# EAGLE library part TSW-124-02-S-Q (library con-samtec)
THROUGH-HOLE .025" SQ POST HEADER Source: Samtec TSW.pdf
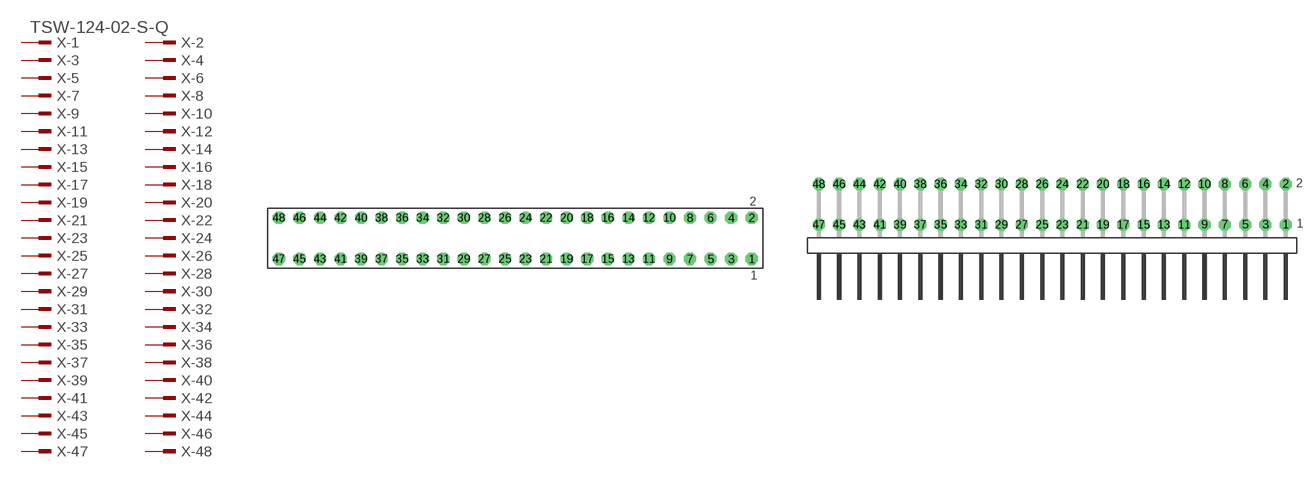
[diagram p266: symbol with the pads of TSW-124-02-S-Q; footprints TSW-124-02-S-Q, TSW-124-02-S-Q-RA]

Designator prefix X; gates -1=MPINV -2=MPIN -3=MPIN -4=MPIN -5=MPIN -6=MPIN -7=MPIN -8=MPIN -9=MPIN -10=MPIN -11=MPIN -12=MPIN -13=MPIN -14=MPIN -15=MPIN -16=MPIN -17=MPIN -18=MPIN -19=MPIN -20=MPIN -21=MPIN -22=MPIN -23=MPIN -24=MPIN -25=MPIN -26=MPIN -27=MPIN -28=MPIN -29=MPIN -30=MPIN -31=MPIN -32=MPIN -33=MPIN -34=MPIN -35=MPIN -36=MPIN -37=MPIN -38=MPIN -39=MPIN -40=MPIN -41=MPIN -42=MPIN -43=MPIN -44=MPIN -45=MPIN -46=MPIN -47=MPIN -48=MPIN

## TSW-124-02-S-Q (OC_FARNELL: unknown; OC_NEWARK: unknown)  [TSW-124-02-S-Q]
1  -1:1  pas
2  -2:1  pas
3  -3:1  pas
4  -4:1  pas
5  -5:1  pas
6  -6:1  pas
7  -7:1  pas
8  -8:1  pas
9  -9:1  pas
10  -10:1  pas
11  -11:1  pas
12  -12:1  pas
13  -13:1  pas
14  -14:1  pas
15  -15:1  pas
16  -16:1  pas
17  -17:1  pas
18  -18:1  pas
19  -19:1  pas
20  -20:1  pas
21  -21:1  pas
22  -22:1  pas
23  -23:1  pas
24  -24:1  pas
25  -25:1  pas
26  -26:1  pas
27  -27:1  pas
28  -28:1  pas
29  -29:1  pas
30  -30:1  pas
31  -31:1  pas
32  -32:1  pas
33  -33:1  pas
34  -34:1  pas
35  -35:1  pas
36  -36:1  pas
37  -37:1  pas
38  -38:1  pas
39  -39:1  pas
40  -40:1  pas
41  -41:1  pas
42  -42:1  pas
43  -43:1  pas
44  -44:1  pas
45  -45:1  pas
46  -46:1  pas
47  -47:1  pas
48  -48:1  pas

## TSW-124-02-S-Q-RA (OC_FARNELL: unknown; OC_NEWARK: unknown)  [TSW-124-02-S-Q-RA]
Pads as for TSW-124-02-S-Q

## Footprint TSW-124-02-S-Q (pad centres in mm)
THROUGH-HOLE .025" SQ POST HEADER Source: Samtec TSW.pdf
drill 1 pad 1.5 octagon: 1 29.21,-2.54; 2 29.21,2.54; 3 26.67,-2.54; 4 26.67,2.54; 5 24.13,-2.54; 6 24.13,2.54; 7 21.59,-2.54; 8 21.59,2.54; 9 19.05,-2.54; 10 19.05,2.54; 11 16.51,-2.54; 12 16.51,2.54; 13 13.97,-2.54; 14 13.97,2.54; 15 11.43,-2.54; 16 11.43,2.54; 17 8.89,-2.54; 18 8.89,2.54; 19 6.35,-2.54; 20 6.35,2.54; 21 3.81,-2.54; 22 3.81,2.54; 23 1.27,-2.54; 24 1.27,2.54; 25 -1.27,-2.54; 26 -1.27,2.54; 27 -3.81,-2.54; 28 -3.81,2.54; 29 -6.35,-2.54; 30 -6.35,2.54; 31 -8.89,-2.54; 32 -8.89,2.54; 33 -11.43,-2.54; 34 -11.43,2.54; 35 -13.97,-2.54; 36 -13.97,2.54; 37 -16.51,-2.54; 38 -16.51,2.54; 39 -19.05,-2.54; 40 -19.05,2.54; 41 -21.59,-2.54; 42 -21.59,2.54; 43 -24.13,-2.54; 44 -24.13,2.54; 45 -26.67,-2.54; 46 -26.67,2.54; 47 -29.21,-2.54; 48 -29.21,2.54

## Footprint TSW-124-02-S-Q-RA (pad centres in mm)
THROUGH-HOLE .025" SQ POST HEADER Source: Samtec TSW.pdf
drill 1 pad 1.5 octagon: 1 29.21,1.524; 2 29.21,6.604; 3 26.67,1.524; 4 26.67,6.604; 5 24.13,1.524; 6 24.13,6.604; 7 21.59,1.524; 8 21.59,6.604; 9 19.05,1.524; 10 19.05,6.604; 11 16.51,1.524; 12 16.51,6.604; 13 13.97,1.524; 14 13.97,6.604; 15 11.43,1.524; 16 11.43,6.604; 17 8.89,1.524; 18 8.89,6.604; 19 6.35,1.524; 20 6.35,6.604; 21 3.81,1.524; 22 3.81,6.604; 23 1.27,1.524; 24 1.27,6.604; 25 -1.27,1.524; 26 -1.27,6.604; 27 -3.81,1.524; 28 -3.81,6.604; 29 -6.35,1.524; 30 -6.35,6.604; 31 -8.89,1.524; 32 -8.89,6.604; 33 -11.43,1.524; 34 -11.43,6.604; 35 -13.97,1.524; 36 -13.97,6.604; 37 -16.51,1.524; 38 -16.51,6.604; 39 -19.05,1.524; 40 -19.05,6.604; 41 -21.59,1.524; 42 -21.59,6.604; 43 -24.13,1.524; 44 -24.13,6.604; 45 -26.67,1.524; 46 -26.67,6.604; 47 -29.21,1.524; 48 -29.21,6.604